# Altium schematic symbol library Integrated Circuits.SchLib: 138 symbols (part 3 of 4)
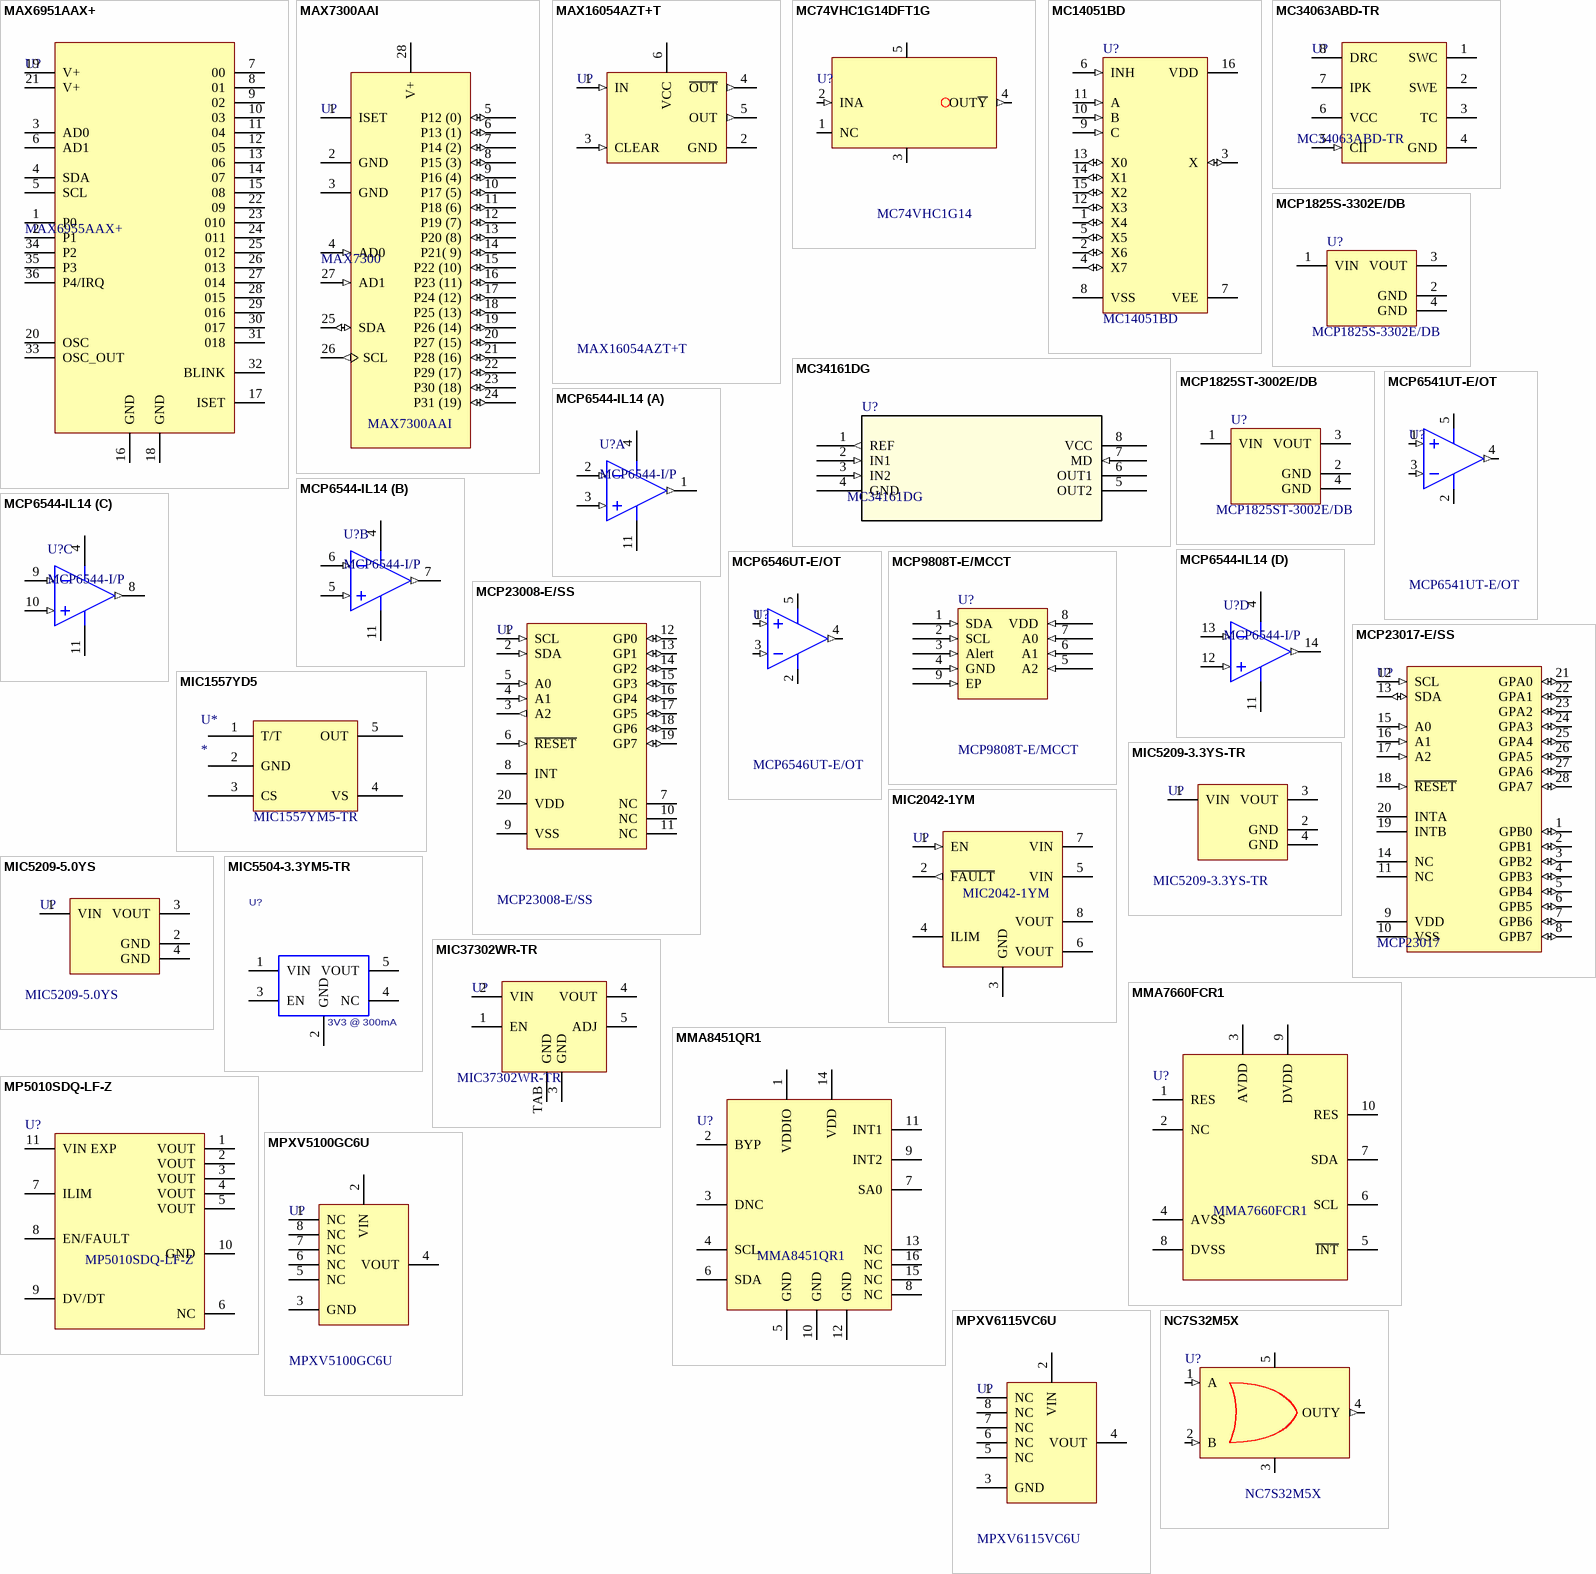
[diagram p8: symbols MAX6951AAX+ to NC7S32M5X]

## MAX7300AAI
designator U?, comment MAX7300
IC, IO Expander, I2C Interface, 20 GPIO, 28-SSOP; Part Number: MAX7300AAI; Manufacturer: Maxim Integrated; PackageDescription: 28-SSOP; ComponentLink1Description: Supplier Link; ComponentLink1URL: http://www.digikey.com/product-detail/en/MAX7300AAI%2B/MAX7300AAI%2B-ND/1512181; PackageReference: A28+1; HelpURL: C:\Dropbox\Component Datasheets\(U) Integrated Circuits\IO Expanders\MAX7300.pdf
footprint TSSOP-28_0.65P5X10_IPC7351A (SOP, 28-Leads, Body 10.2x5.29mm, Pitch 0.65mm, IPC High Density)
pins: 1 ISET "Bias current setting.", 2 GND (power) "Ground", 3 GND (power) "Ground", 4 AD0 (in) "Address line 0", 5 P12 (0) (io) "GPIO 0", 6 P13 (1) (io) "GPIO 1", 7 P14 (2) (io) "GPIO 2", 8 P15 (3) (io) "GPIO 3", 9 P16 (4) (io) "GPIO 4", 10 P17 (5) (io) "GPIO 5", 11 P18 (6) (io) "GPIO 6", 12 P19 (7) (io) "GPIO 7", 13 P20 (8) (io) "GPIO 8", 14 P21( 9) (io) "GPIO 9", 15 P22 (10) (io) "GPIO 10", 16 P23 (11) (io) "GPIO 11", 17 P24 (12) (io) "GPIO 12", 18 P25 (13) (io) "GPIO 13", 19 P26 (14) (io) "GPIO 14", 20 P27 (15) (io) "GPIO 15", 21 P28 (16) (io) "GPIO 16", 22 P29 (17) (io) "GPIO 17", 23 P30 (18) (io) "GPIO 18", 24 P31 (19) (io) "GPIO 19", 25 SDA (io) "I2C data line", 26 SCL (out) "I2C clock", 27 AD1 (in) "Address line 1", 28 V+ (power) "Supply Voltage Input"

## MAX16054AZT+T
designator U?
IC, Pushbutton Debounce Controller, ON/OFF, SOT23-6; Manufacturer: Maxim Integrated; PackageReference: *; PackageDescription: SOT23-6; ComponentLink1Description: Supplier Link; ComponentLink1URL: https://www.digikey.com/product-detail/en/maxim-integrated/MAX16054AZT-T/MAX16054AZT-TCT-ND/2234292; HelpURL: http://datasheets.maximintegrated.com/en/ds/MAX16054.pdf; Part Number: MAX16054AZT+T
footprint SOT23-6 (SOT23, 6-Leads, Body 3x1.5mm, Pitch 1mm, Lead Span 2.7mm, IPC Medium Density)
pins: 1 IN (in), 2 GND (power), 3 CLEAR (in), 4 ~{OUT} (out), 5 OUT (out), 6 VCC (power)

## MC74VHC1G14DFT1G
designator U?, comment MC74VHC1G14
IC, Inverter, SGL, Schmitt, SOT353; Manufacturer: On Semi; PackageReference: SOT-353; PackageDescription: SOT-353; ComponentLink1Description: Supplier Link; ComponentLink1URL: http://www.digikey.com/product-detail/en/MC74VHC1G14DFT1G/MC74VHC1G14DFT1GOSCT-ND/964532; HelpURL: C:\Users\jmrosino\Dropbox (Personal)\Component Datasheets\(U) Integrated Circuits\Cap Sense\OnSemi_Inverter_MC74VHC1G14-D.PDF; Part Number: MC74VHC1G14
footprint SOT_353 (SOT353, 5pin, 2mm x 1.25mm, 0.65 pitch)
pins: 1 NC, 2 INA (in), 3 GND, 4 OUT~{Y} (out), 5 VDD (power)

## MC14051BD
designator U?
IC, 8-Channel Analog Multiplexer/Demultiplexer; Manufacturer: ON Semiconductor; PackageVersion: Oct-1999; PackageReference: *; PackageDescription: *; ComponentLink1Description: Supplier Link; ComponentLink1URL: http://www.digikey.com/product-detail/en/MC14051BDTR2G/MC14051BDTR2GOSCT-ND/1967077; HelpURL: *; Part Number: MC14051BD
footprint TSSOP-16_0.65P5x4.4_948F (TSOP, 16-Leads, Body 5x4.4mm, Pitch 0.65mm, IPC High Density)
pins: 1 X4 (io), 2 X6 (io), 3 X (io), 4 X7 (io), 5 X5 (io), 6 INH (in), 7 VEE (power), 8 VSS (power), 9 C (in), 10 B (in), 11 A (in), 12 X3 (io), 13 X0 (io), 14 X1 (io), 15 X2 (io), 16 VDD (power)

## MC34063ABD-TR
designator U?
IC, Vreg, Buck-Boost, 1.5A, 40V, 8-Pin SOIC; Manufacturer: STMicroelectronics; PackageReference: 8-SO; PackageDescription: 8-SOIC; Part Number: MC34063ABD-TR; HelpURL: http://www.st.com/content/ccc/resource/technical/document/datasheet/03/f9/c4/3d/7f/eb/4c/5e/CD00001232.pdf/files/CD00001232.pdf/jcr:content/translations/en.CD00001232.pdf; ComponentLink2Description: Datahseet; ComponentLink1URL: http://www.digikey.com/product-detail/en/stmicroelectronics/MC34063ABD-TR/497-7849-1-ND/1883648; ComponentLink1Description: Supplier Link
footprint SOIC-8_1.27P4.9X3.9_IPC7351A (SOIC, 8-Leads, Body 4.90x3.90mm, Pitch 1.27mm, IPC High Density)
pins: 1 SWC (oc), 2 SWE (oe), 3 TC, 4 GND (power), 5 CII (in), 6 VCC (power), 7 IPK, 8 DRC (oc)

## MC34161DG
designator U?
Supervisor Open Drain or Open Collector 2 Channel 8-SOIC; Manufacturer: STMicroelectronics; PackageReference: 8-SO; PackageDescription: IC MONITOR VOLTAGE UNIV 8SOIC; Part Number: MC34161DG; HelpURL: http://www.onsemi.com/pub_link/Collateral/MC34161-D.PDF; ComponentLink2Description: Datahseet; ComponentLink1URL: http://www.digikey.com/product-search/en?keywords=MC34161DGOS-ND%20; ComponentLink1Description: Supplier Link
footprint SO8NB
pins: 1 REF (out), 2 IN1 (in), 3 IN2 (in), 4 GND (power), 5 OUT2, 6 OUT1, 7 MD (in), 8 VCC (power)

## MCP1825S-3302E/DB
designator U?
IC, Vreg, LDO, 500 mA, Fixed 3.3V Out, Vin 6.0Vmax, 3-Pin SOT-223; Manufacturer: Microchip; PackageReference: SOT-223-DB3; PackageDescription: 3-Lead Plastic Small Outline Transistor (DB) [SOT-223]; Part Number: MCP1825S-3302E/DB; HelpURL: http://www.mouser.com/ds/2/268/22056b-475378.pdf; ComponentLink1URL: http://www.mouser.com/ProductDetail/Microchip-Technology/MCP1825S-3302E-DB/?qs=sGAEpiMZZMsGz1a6aV8DcJ7KfjtCj7XdhLgwEYhyq%2fs%3d; ComponentLink1Description: Supplier Link
footprint SOT-223-DB3_M (SOT223, 4-Leads, Body 6.5x3.5mm, Pitch 2.3mm, Lead Span 7mm, IPC Low Density)
pins: 1 VIN (power), 2 GND (power), 3 VOUT (power), 4 GND (power)

## MCP1825ST-3002E/DB
designator U?
IC, Vreg, LDO, 500 mA, Fixed 3.0V Out, Vin 6.0Vmax, 3-Pin SOT-223; Manufacturer: Microchip; PackageReference: SOT-223-DB3; PackageDescription: SOT-223-DB3; Part Number: MCP1825ST-3002E/DB; HelpURL: http://www.mouser.com/ds/2/268/22056b-475378.pdf; ComponentLink1URL: http://www.mouser.com/ProductDetail/Microchip-Technology/MCP1825S-3302E-DB/?qs=sGAEpiMZZMsGz1a6aV8DcJ7KfjtCj7XdhLgwEYhyq%2fs%3d; ComponentLink1Description: Supplier Link
footprint SOT-223-DB3_M (SOT223, 4-Leads, Body 6.5x3.5mm, Pitch 2.3mm, Lead Span 7mm, IPC Low Density)
pins: 1 VIN (power), 2 GND (power), 3 VOUT (power), 4 GND (power)

## MCP6541UT-E/OT
designator U?
IC, Comparator, Push-Pull, Single; Manufacturer: Microchip; PackageDescription: SOT-23-5; ComponentLink1Description: Supplier Link; ComponentLink1URL: http://www.digikey.com/product-detail/en/MCP6541UT-E%2FOT/MCP6541UT-E%2FOTCT-ND/857433; PackageReference: SOT-23-5; Part Number: MCP6541UT-E/OT; HelpURL: C:\Dropbox (Personal)\Component Datasheets\(U) Integrated Circuits\Comparators\Microchip_MCP6541.pdf
footprint SOT-23-5 (SOT23-5, 5pin, 3mm x 3mm, 0.95 pitch)
pins: 1 VIN+ (in), 2 VDD (power), 3 VIN- (in), 4 OUT (out), 5 VSS (power)

## MCP6544-IL14
designator U?, comment MCP6544-I/P
IC, Comparator, PP I/O, QUAD 1.6V 14DIP; Datasheet: http://ww1.microchip.com/downloads/en/DeviceDoc/22269B.pdf; Manufacturer link: http://www.digikey.com/product-detail/en/microchip-technology/MCP6544-I-P/MCP6544-I-P-ND/458371; PackageDescription: 14-DIP; Partnumber: MCP6544-I/P
footprint PDIP14-7.62X2.54 (DIP, 14-Pin, Row Spacing 7.62 mm, Pitch 2.54 mm)
pins on every part: 4 VDD (power), 11 VSS (power)
part A pins: 1 OUTA (out), 2 VINA- (in), 3 VINA+ (in)
part B pins: 5 VINB+ (in), 6 VINB- (in), 7 OUTB (out)
part C pins: 8 OUTC (out), 9 VINC- (in), 10 VINC+ (in)
part D pins: 12 VIND+ (in), 13 VIND- (in), 14 OUTD (out)

## MCP6546UT-E/OT
designator U?
IC, Comparator, Open Drain, 1.6-5.5V, R to R, SOT23-5; Manufacturer: Microchip; PackageDescription: SC-74A, SOT-753; ComponentLink1Description: Supplier Link; ComponentLink1URL: https://www.digikey.com/product-detail/en/microchip-technology/MCP6546UT-E-OT/MCP6546UT-E-OTCT-ND/1979734; PackageReference: SOT-23-5; Part Number: MCP6546UT-E/OT; HelpURL: http://ww1.microchip.com/downloads/en/DeviceDoc/21714G.pdf
footprint SOT-23-5 (SOT23-5, 5pin, 3mm x 3mm, 0.95 pitch)
pins: 1 VIN+ (in), 2 VDD (power), 3 VIN- (in), 4 OUT (out), 5 VSS (power)

## MCP9808T-E/MCCT
designator U?
IC, Temperature Sensor, I2C, 8DFN, 0.5C Accuracy; Manufacturer: Microchip; PackageDescription: SENSOR TEMP I2C/SMBUS 8DFN; ComponentLink1Description: Supplier Link; ComponentLink1URL: https://www.digikey.com/product-detail/en/microchip-technology/MCP9808T-E-MC/MCP9808T-E-MCCT-ND/2802117; PackageReference: 8-DFN (2x3 mm); Part Number: MCP9808T-E/MCCT; HelpURL: http://ww1.microchip.com/downloads/en/DeviceDoc/25095A.pdf
footprint DFN8_EP_2x3 (SON, 8-Leads, Body 2.00x3.00mm, Pitch 0.50mm, Thermal Pad 1.43x1.54mm, IPC High Density)
pins: 1 SDA (in), 2 SCL (in), 3 Alert (in), 4 GND (in), 5 A2 (in), 6 A1 (in), 7 A0 (in), 8 VDD (in), 9 EP (in)

## MCP23008-E/SS
designator U?
IC, IO Expander, 8 bit, I2C Interface; Manufacturer: Microchip; PackageReference: SS; PackageDescription: 20-SSOP; ComponentLink1Description: Supplier Link; ComponentLink1URL: http://www.digikey.com/product-detail/en/MCP23008-E%2FSS/MCP23008-E%2FSS-ND/735953; HelpURL: C:\Dropbox\Component Datasheets\(U) Integrated Circuits\IO Expanders\Microchip_MCP23x08.pdf; Part Number: MCP23008-E/SS
footprint TSSOP-20_0.65P5X7 (SOP, 20-Leads, Body 7.2x5.2mm, Pitch 0.65mm, IPC Medium Density)
pins: 1 SCL (in), 2 SDA (in), 3 A2 (out), 4 A1 (in), 5 A0 (in), 6 ~{RESET} (in), 7 NC, 8 INT (oc), 9 VSS (power), 10 NC, 11 NC, 12 GP0 (io), 13 GP1 (io), 14 GP2 (io), 15 GP3 (io), 16 GP4 (io), 17 GP5 (io), 18 GP6 (io), 19 GP7 (io), 20 VDD (power)

## MCP23017-E/SS
designator U?, comment MCP23017
IC, IO Expander, 16 bit, I2C Interface; Manufacturer: Microchip; Part Number: MCP23017-E/SS; PackageReference: SS; PackageDescription: IC I/O EXPANDER I2C 16B 28SSOP; ComponentLink1Description: Supplier Link; ComponentLink1URL: http://www.digikey.com/product-detail/en/MCP23017-E%2FSS/MCP23017-E%2FSS-ND/894273; HelpURL: http://ww1.microchip.com/downloads/en/DeviceDoc/20001952C.pdf
footprint TSSOP-28_0.65P5X10_IPC7351A (SOP, 28-Leads, Body 10.2x5.29mm, Pitch 0.65mm, IPC High Density)
pins: 1 GPB0 (io), 2 GPB1 (io), 3 GPB2 (io), 4 GPB3 (io), 5 GPB4 (io), 6 GPB5 (io), 7 GPB6 (io), 8 GPB7 (io), 9 VDD (power), 10 VSS (power), 11 NC, 12 SCL (in), 13 SDA (io), 14 NC, 15 A0 (in), 16 A1 (in), 17 A2 (in), 18 ~{RESET} (in), 19 INTB (oc), 20 INTA (oc), 21 GPA0 (io), 22 GPA1 (io), 23 GPA2 (io), 24 GPA3 (io), 25 GPA4 (io), 26 GPA5 (io), 27 GPA6 (io), 28 GPA7 (io)

## MIC1557YD5
designator U*  PartNumber: MIC1557YM5-TR
IC, RC Timer/Oscillator, MIC1557YD5, SOT23-5; Manufacturer: Microchip Technology; ComponentLink1Description: Supplier Link; ComponentLink1URL: http://www.digikey.com/product-detail/en/microchip-technology/MIC1557YM5-TR/576-1055-1-ND/771823
footprint sot23-5
pins: 1 T/T, 2 GND, 3 CS, 4 VS, 5 OUT

## MIC2042-1YM
designator U?
IC, Power Distribution Switch, 3A max,  8-SOIC; Manufacturer: Microchip Technology; PackageDescription: IC DISTRIBUTION SW SGL 8-SOIC; PackageReference: 8-pin SOP (M); ComponentLink1URL: http://www.digikey.com/product-detail/en/microchip-technology/MIC2042-1YM/576-1695-5-ND/1027926; ComponentLink1Description: Supplier Link; HelpURL: http://ww1.microchip.com/downloads/en/DeviceDoc/mic2042.PDF; PartNumber: MIC2042-1YM
footprint SOIC-8_1.27P4.9X3.9_IPC7351A (SOIC, 8-Leads, Body 4.90x3.90mm, Pitch 1.27mm, IPC High Density)
pins: 1 EN (in), 2 ~{FAULT} (out), 3 GND, 4 ILIM (power), 5 VIN, 6 VOUT, 7 VIN (oc), 8 VOUT

## MIC5209-3.3YS-TR
designator U?
IC, Vreg, LDO, 500 mA, Fixed 3.3V Out, Vin 15Vmax, 3-Pin SOT-223; Manufacturer: Microchip; PackageReference: SOT-223-DB3; PackageDescription: IC REG LDO 3.3V 0.5A SOT223; Part Number: MIC5209-3.3YS-TR; HelpURL: http://ww1.microchip.com/downloads/en/DeviceDoc/mic5209.pdf; ComponentLink2Description: Datahseet; ComponentLink1URL: http://www.digikey.com/product-detail/en/microchip-technology/MIC5209-3.3YS-TR/576-1274-1-ND/771899; ComponentLink1Description: Supplier Link
footprint SOT-223-DB3_M (SOT223, 4-Leads, Body 6.5x3.5mm, Pitch 2.3mm, Lead Span 7mm, IPC Low Density)
pins: 1 VIN (power), 2 GND (power), 3 VOUT (power), 4 GND (power)

## MIC5209-5.0YS
designator U?
IC, Vreg, LDO, 500 mA, Fixed 5.0V Out, Vin 16Vmax, 3-Pin SOT-223; Manufacturer: Microchip; PackageReference: SOT-223-DB3; PackageDescription: IC REG LDO 5V 0.5A SOT223; Part Number: MIC5209-5.0YS; HelpURL: http://ww1.microchip.com/downloads/en/DeviceDoc/mic5209.pdf; ComponentLink2Description: Datahseet; ComponentLink1URL: http://www.digikey.com/product-detail/en/microchip-technology/MIC5209-5.0YS/576-1276-ND/771745; ComponentLink1Description: Supplier Link
footprint SOT-223-DB3_M (SOT223, 4-Leads, Body 6.5x3.5mm, Pitch 2.3mm, Lead Span 7mm, IPC Low Density)
pins: 1 VIN (power), 2 GND (power), 3 VOUT (power), 4 GND (power) "Tab"

## MIC5504-3.3YM5-TR
designator U?  value 3V3 @ 300mA  (hidden comment: MIC5504-3.3YM5-TR)
IC, Vreg, LDO, 2.5V to 5.5V, 160mV Dropout, 3.3Vout, 300mAout; Manufacturer: MICROCHIP; Current Rating: 300mA; Voltage Rating: Vo = 3.3V; PackageDescription: SOT-23-5; ComponentLink1Description: Supplier Link; ComponentLink1URL: http://www.mouser.com/ProductDetail/Microchip/MIC5504-33YM5-TR/?qs=%2fha2pyFadujJDaiWTJyHEN2WiPDFCbokSBsX6Nn5SFt6QmSHXBFB7Jl5oDxci6NL; HelpURL: http://www.mouser.com/ds/2/268/MIC550X-779180.pdf; Part Number: MIC5504-3.3YM5-TR
footprint SOT-23-5 (SOT23-5, 5pin, 3mm x 3mm, 0.95 pitch)
pins: 1 VIN, 2 GND, 3 EN, 4 NC, 5 VOUT

## MIC37302WR-TR
designator U?
IC, Vreg, LDO, 3.0A, 1.24-5.5VAdj, 5-Pin S-pak; Manufacturer: Microchip; PackageReference: S-PAK-5; PackageDescription: SPak-5 (5 leads + Tab); Part Number: MIC37302WR-TR; HelpURL: http://ww1.microchip.com/downloads/en/DeviceDoc/mic37300-301-302.pdf; ComponentLink2Description: Datahseet; ComponentLink1URL: http://www.digikey.com/product-detail/en/microchip-technology/MIC37302WR-TR/576-1167-1-ND/771860; ComponentLink1Description: Supplier Link
footprint SPAK-5_MIC37302 (SPAK, 5 lead + TAB)
pins: 1 EN (power), 2 VIN (power), 3 GND (power), 4 VOUT (power), 5 ADJ (power), TAB GND (power)

## MMA7660FCR1
designator U?
IC, Accelerometer, 3-axis, i2c interface; Manufacturer: Freescale; PackageReference: LP; PackageDescription: 10 lead DFN; ComponentLink1Description: Manufacturer Link; ComponentLink1URL: http://www.freescale.com/products/sensors/accelerometers/3-axis-accelerometers/1.5g-low-g-digital-accelerometer:MMA7660FC; ComponentLink2Description: Datasheet; ComponentLink2URL: C:\Users\jmrosino\Dropbox (Personal)\Component Datasheets (1)\(U) Integrated Circuits\Accelerometers\Freescale_MMA7660FC.pdf; HelpURL: C:\Users\jmrosino\Dropbox (Personal)\Component Datasheets (1)\(U) Integrated Circuits\Accelerometers\Freescale_MMA7660FC.pdf; Part Number: MMA7660FCR1
footprint DFN10_3x3_0.5 (DFN, 10-leads, Body 3x3mm, Pitch 0.5mm)
pins: 1 RES "Soft start and watchdog timing capacitor terminal", 2 NC "Soft start and watchdog timing capacitor terminal", 3 AVDD "Soft start and watchdog timing capacitor terminal", 4 AVSS "Soft start and watchdog timing capacitor terminal", 5 ~{INT} "Soft start and watchdog timing capacitor terminal", 6 SCL "Soft start and watchdog timing capacitor terminal", 7 SDA "Soft start and watchdog timing capacitor terminal", 8 DVSS "Soft start and watchdog timing capacitor terminal", 9 DVDD "Soft start and watchdog timing capacitor terminal", 10 RES "Soft start and watchdog timing capacitor terminal"

## MMA8451QR1
designator U?
IC, Accelerometer, 3-axis, 14bit/8bit, i2c interface; Manufacturer: NXP USA Inc.; PackageReference: LP; PackageDescription: IC ACCELER 2G/4G/8G 3AXIS 16QFN; ComponentLink1Description: Manufacturer Link; ComponentLink1URL: http://www.freescale.com/products/sensors/accelerometers/3-axis-accelerometers/1.5g-low-g-digital-accelerometer:MMA7660FC; ComponentLink2Description: Supplier Link; ComponentLink2URL: http://www.digikey.com/product-detail/en/MMA8451QR1/MMA8451QR1TR-ND/2508916; HelpURL: http://cache.freescale.com/files/sensors/doc/data_sheet/MMA8451Q.pdf; Part Number: MMA8451QR1
footprint QFN-16-3x3_FreeScale (QFN, 16-Leads, Body 3x3mm, Pitch 0.5mm, MMA8451 IC)
pins: 1 VDDIO (power), 2 BYP "Soft start and watchdog timing capacitor terminal", 3 DNC "Soft start and watchdog timing capacitor terminal", 4 SCL "Soft start and watchdog timing capacitor terminal", 5 GND (power), 6 SDA "Soft start and watchdog timing capacitor terminal", 7 SA0, 8 NC "Soft start and watchdog timing capacitor terminal", 9 INT2 "Soft start and watchdog timing capacitor terminal", 10 GND (power), 11 INT1 "Soft start and watchdog timing capacitor terminal", 12 GND (power), 13 NC "Soft start and watchdog timing capacitor terminal", 14 VDD (power), 15 NC, 16 NC

## MP5010SDQ-LF-Z
designator U?
IC, EFuse, 4-18V, Up to 5A, 10VSON; Manufacturer: Monolithic Power Systems; PackageReference: 10-QFN (3x3); PackageDescription: 10-QFN-Exposed Pad VCC; ComponentLink1Description: Supplier; ComponentLink1URL: http://www.mouser.com/ProductDetail/Monolithic-Power-Systems-MPS/MP5010SDQ-LF-Z/?qs=sGAEpiMZZMvZIhR0ic1l%2ffxrj9fhyWLEWsgjXu29Cr0%3d; HelpURL: http://www.mouser.com/ds/2/277/MP5010S_r1.0-371400.pdf; Part Number: MP5010SDQ-LF-Z
footprint QFN-10-3x3 (QFN, 10-Leads, Body 3x3mm, Pitch 0.5mm, Thermal Pad 1.7x 2.5mm)
pins: 1 VOUT (power), 2 VOUT (power), 3 VOUT (power), 4 VOUT (power), 5 VOUT (power), 6 NC, 7 ILIM, 8 EN/FAULT, 9 DV/DT, 10 GND, 11 VIN EXP (power)

## MPXV5100GC6U
designator U?
IC, Pressure Sensor, Top Port, 100kPa, 0.2v-4.6V, 8-SMD gull wing; Manufacturer: NXP USA Inc.; PackageDescription: SENSOR GAUGE PRESS 14.5PSI MAX; ComponentLink1Description: Supplier Link; ComponentLink1URL: http://www.digikey.com/product-detail/en/nxp-usa-inc/MPXV5100GC6U/MPXV5100GC6U-ND/951850; PackageReference: 8-SMD; Part Number: MPXV5100GC6U; HelpURL: http://www.nxp.com/assets/documents/data/en/data-sheets/MPX5100.pdf
footprint MPX-8_SMD_Sensor (Pressure Sensor)
pins: 1 NC, 2 VIN (power), 3 GND, 4 VOUT (power), 5 NC, 6 NC, 7 NC, 8 NC (power)

## MPXV6115VC6U
designator U?
IC, Pressure Sensor, Top Port, -115kPa (vacuum), 0.2v-4.6V, 8-SMD gull wing; Manufacturer: NXP USA Inc.; PackageDescription: SENSOR DIFF PRESS 2.2PSI MAX; ComponentLink1Description: Supplier Link; ComponentLink1URL: http://www.digikey.com/product-detail/en/nxp-usa-inc/MPXV6115VC6U/MPXV6115VC6U-ND/951851; PackageReference: 8-SMD; Part Number: MPXV6115VC6U; HelpURL: http://www.nxp.com/assets/documents/data/en/data-sheets/MPXV6115V.pdf
footprint MPX-8_SMD_Sensor (Pressure Sensor)
pins: 1 NC, 2 VIN (power), 3 GND, 4 VOUT (power), 5 NC, 6 NC, 7 NC, 8 NC (power)

## NC7S32M5X
designator U?
IC, OR Gate, CMOS, SGL, SOT23-5; Manufacturer: On Semi; PackageReference: SOT-23-5; PackageDescription: SOT-23-5; ComponentLink1Description: Supplier Link; ComponentLink1URL: http://www.digikey.com/product-detail/en/fairchild-semiconductor/NC7S32M5X/NC7S32M5XCT-ND/673383; HelpURL: https://www.fairchildsemi.com/datasheets/NC/NC7S32.pdf; Part Number: NC7S32M5X
footprint SOT-23-5 (SOT23-5, 5pin, 3mm x 3mm, 0.95 pitch)
pins: 1 A (in), 2 B (in), 3 GND, 4 OUTY (out), 5 VDD (power)

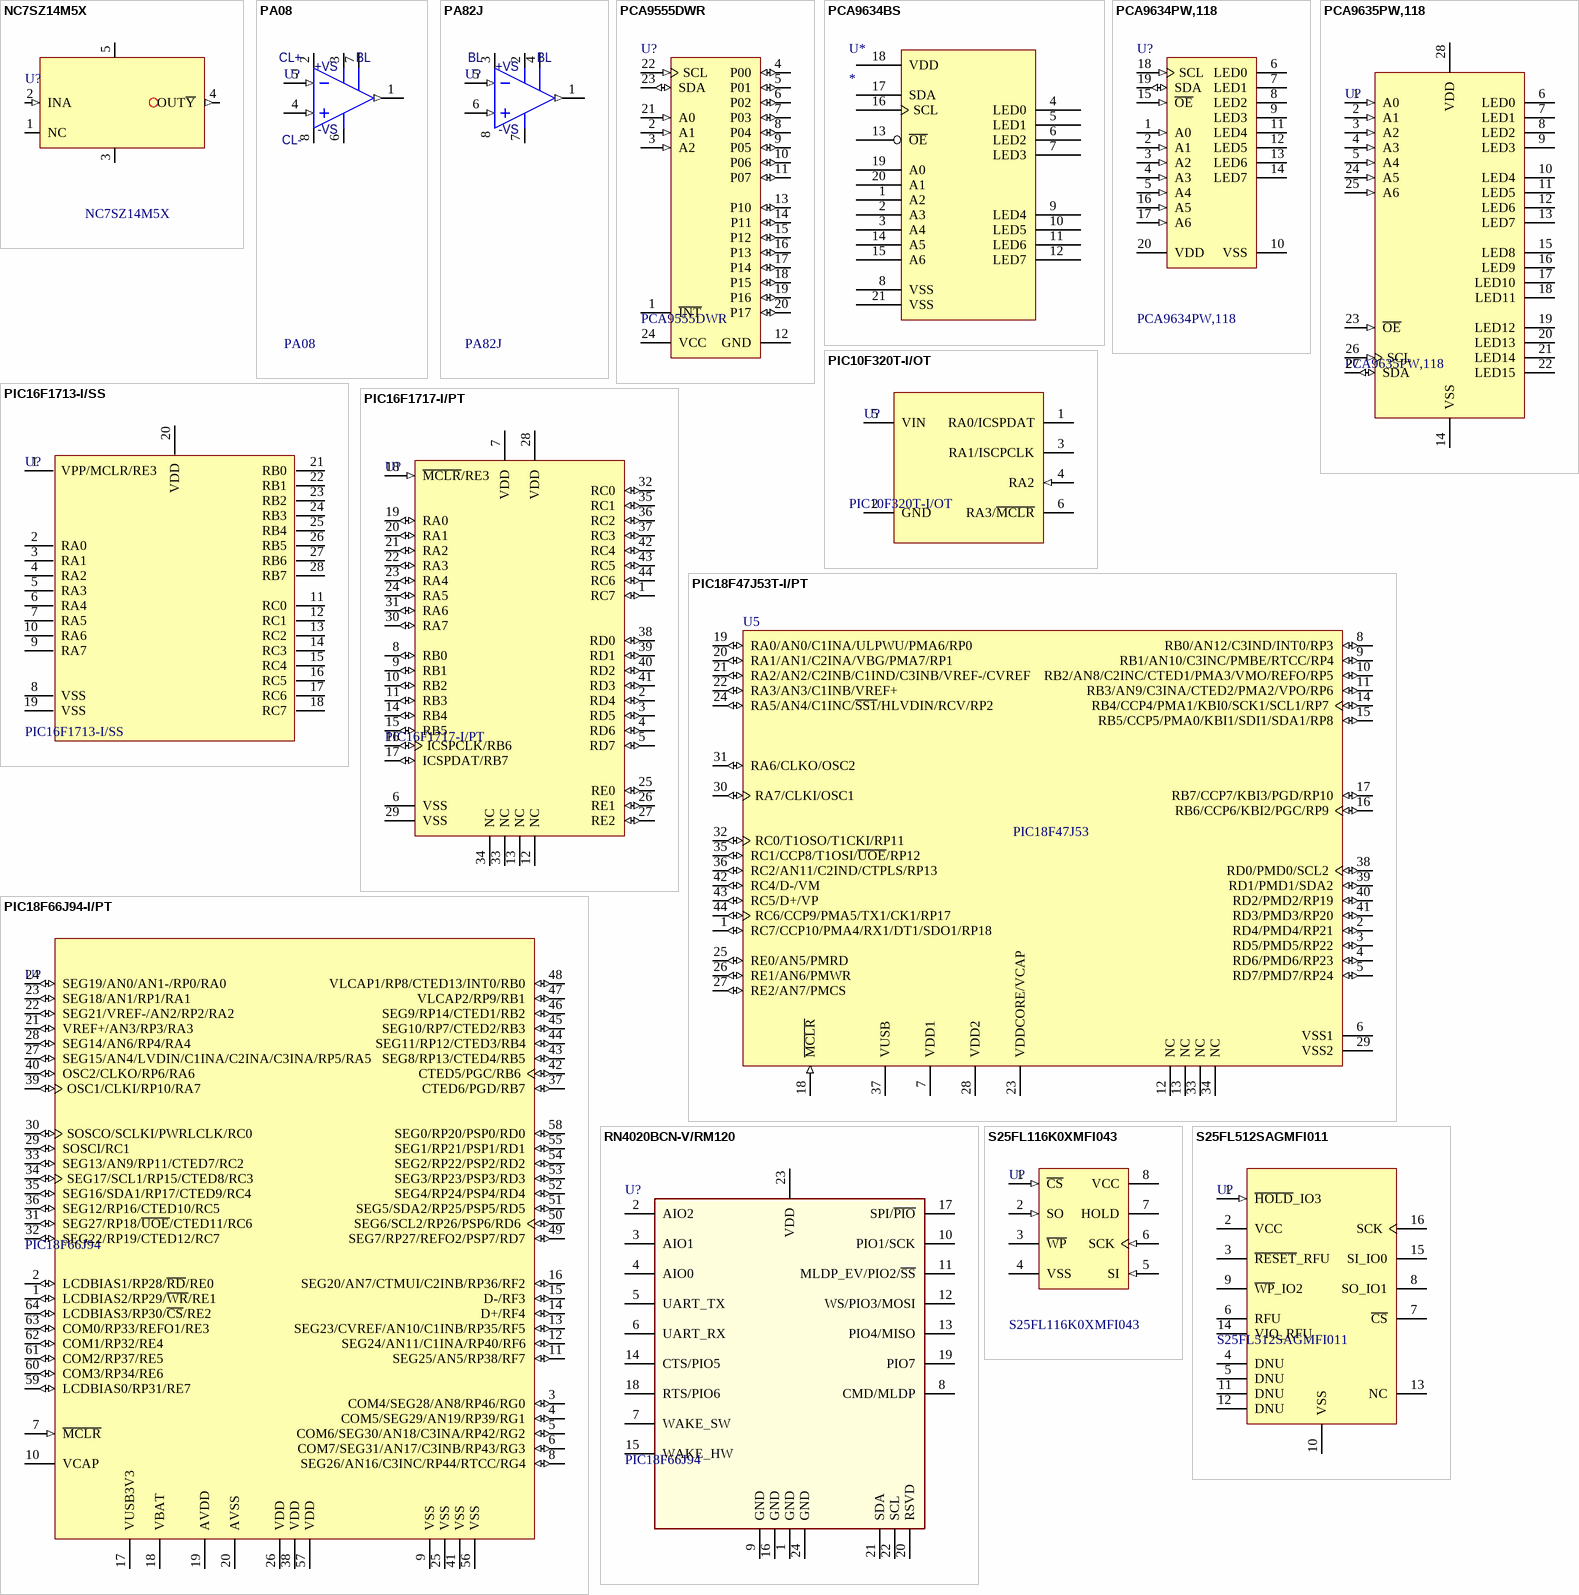
[diagram p5: symbols NC7SZ14M5X to S25FL512SAGMFI011]

## NC7SZ14M5X
designator U?
IC, Inverter, Single, Schmitt, SOT23-5; Manufacturer: Fairchild Semi; PackageReference: SOT23-5; PackageDescription: SOT23-5; ComponentLink1Description: Supplier Link; ComponentLink1URL: http://www.digikey.com/product-detail/en/NC7SZ14M5X/NC7SZ14M5XCT-ND/673396; HelpURL: C:\Users\jmrosino\Dropbox (Personal)\Component Datasheets\(U) Integrated Circuits\Cap Sense\Fairchild_Inverter_NC7SZ14.pdf; Part Number: NC7SZ14M5X
footprint SOT-23-5 (SOT23-5, 5pin, 3mm x 3mm, 0.95 pitch)
pins: 1 NC, 2 INA (in), 3 GND, 4 OUT~{Y} (out), 5 VDD (power)

## PA08
designator U?
IC, Op-Amp, Single, HV 300V, High Power; Manufacturer: Apex Microtechnology; PackageReference: TO3-8; PackageDescription: TO3-8; ComponentLink1Description: Supplier Link; ComponentLink1URL: http://www.digikey.com/product-detail/en/apex-microtechnology/PA08/598-1296-ND/1761920; HelpURL: https://www.apexanalog.com/products/pa08.html; Part Number: PA08
footprint TO3-8_Can (TO3 8 pin can)
pins: 1 OUT (out), 2 CL- (power), 3 +V (power), 4 +IN (in), 5 -IN (in), 6 -V (power), 7 BL (power), 8 CL+
text: +VS; -VS

## PA82J
designator U?
IC, Op-Amp, Single, HV 300V, High Power; Manufacturer: Apex Microtechnology; PackageReference: TO3-8; PackageDescription: TO3-8; ComponentLink1Description: Supplier Link; ComponentLink1URL: http://www.digikey.com/product-search/en?keywords=PA82J; HelpURL: https://www.apexanalog.com/resources/products/pa81-82ju.pdf; Part Number: PA82J
footprint TO3-8_Can (TO3 8 pin can)
pins: 1 OUT (out), 2 +V (power), 3 BL (power), 4 BL (power), 5 -IN (in), 6 +IN (in), 7 -V (power), 8 NC
text: +VS; -VS

## PCA9555DWR
designator U?
IC I/O EXPANDER I2C 16B 24SOIC; Manufacturer: Texas Instrument; PackageReference: 24SOIC; PackageDescription: IC I/O EXPANDER I2C 16B 24SOIC; ComponentLink1Description: Supplier Link; ComponentLink1URL: http://www.digikey.com/products/en/integrated-circuits-ics/interface-i-o-expanders/749?k=PCA9555&k=&pkeyword=PCA9555&pv1291=469&FV=142c0887%2C142c0018%2C142c0bb6%2C142c01d5%2C142c0240%2Cffe002ed%2C1c0002&mnonly=0&newproducts=0&ColumnSort=0&page=1&quantity=0&ptm=0&fid=0&pageSize=25; HelpURL: http://www.ti.com/lit/ds/symlink/pca9555.pdf; Part Number: PCA9555DWR
footprint SOIC-24 (SOIC, 24-Leads, Body 15.6x7.6mm, Pitch 1.27mm, IPC High Density)
pins: 1 ~{INT} (oc) "Interrupt output. Connect to VCC through a pullup resistor.", 2 A1 (in) "Address input 1. Connect directly to VCC or ground.", 3 A2 (in) "Address input 2. Connect directly to VCC or ground.", 4 P00 (io) "P-port input/output. Push-pull design structure.", 5 P01 (io) "P-port input/output. Push-pull design structure.", 6 P02 (io) "P-port input/output. Push-pull design structure.", 7 P03 (io) "P-port input/output. Push-pull design structure.", 8 P04 (io) "P-port input/output. Push-pull design structure.", 9 P05 (io) "P-port input/output. Push-pull design structure.", 10 P06 (io) "P-port input/output. Push-pull design structure.", 11 P07 (io) "P-port input/output. Push-pull design structure.", 12 GND (power) "Ground", 13 P10 (io) "P-port input/output. Push-pull design structure.", 14 P11 (io) "P-port input/output. Push-pull design structure.", 15 P12 (io) "P-port input/output. Push-pull design structure.", 16 P13 (io) "P-port input/output. Push-pull design structure.", 17 P14 (io) "P-port input/output. Push-pull design structure.", 18 P15 (io) "P-port input/output. Push-pull design structure.", 19 P16 (io) "P-port input/output. Push-pull design structure.", 20 P17 (io) "P-port input/output. Push-pull design structure.", 21 A0 (in) "Address input 0. Connect directly to VCC or ground.", 22 SCL (in) "Serial clock bus. Connect to VCC through a pullup resistor.", 23 SDA (io) "Serial data bus. Connect to VCC through a pullup resistor.", 24 VCC (power) "Supply voltage"

## PCA9634BS
designator U*
IC, I2C BUS LED DRIVER 8 CHANNEL
pins: 1 A2, 2 A3, 3 A4, 4 LED0, 5 LED1, 6 LED2, 7 LED3, 8 VSS, 9 LED4, 10 LED5, 11 LED6, 12 LED7, 13 ~{OE}, 14 A5, 15 A6, 16 SCL, 17 SDA, 18 VDD, 19 A0, 20 A1, 21 VSS

## PCA9634PW,118
designator U?
IC, LED Driver, 8-CH, 25mA, PWM Control, 20-TSSOP; Manufacturer: NXP; PackageReference: *; PackageDescription: 20-TSSOP; ComponentLink1Description: Supplier Link; ComponentLink1URL: https://www.digikey.com/product-detail/en/nxp-usa-inc/PCA9634PW,118/568-4066-1-ND/1534155; HelpURL: http://www.nxp.com/documents/data_sheet/PCA9634.pdf; Part Number: PCA9634PW,118
footprint TSSOP-20_6.5x4.4m (TSSOP, 20-Leads, Body 6.5x4.4mm, Pitch 0.65mm, NXP Recommended)
pins: 1 A0 (in) "address input 0", 2 A1 (in) "address input 1", 3 A2 (in) "address input 2", 4 A3 (in) "address input 3", 5 A4 (in) "address input 4", 6 LED0 (hiz) "LED driver 0", 7 LED1 (hiz) "LED driver 1", 8 LED2 (hiz) "LED driver 2", 9 LED3 (hiz) "LED driver 3", 10 VSS (power) "supply ground", 11 LED4 (hiz) "LED driver 4", 12 LED5 (hiz) "LED driver 5", 13 LED6 (hiz) "LED driver 6", 14 LED7 (hiz) "LED driver 7", 15 ~{OE} (in) "active LOW output enable", 16 A5 (in) "address input 5", 17 A6 (in) "address input 6", 18 SCL (in) "serial clock line", 19 SDA (io) "serial data line", 20 VDD (power) "supply voltage"

## PCA9635PW,118
designator U?
IC, LED Driver, 16-CH, 25mA, PWM Control, 28-TSSOP; Manufacturer: NXP USA Inc.; PackageReference: *; PackageDescription: 28-TSSOP; ComponentLink1Description: Supplier Link; ComponentLink1URL: https://www.digikey.com/product-detail/en/nxp-usa-inc/PCA9635PW,118/568-4067-1-ND/1534156; HelpURL: http://www.nxp.com/documents/data_sheet/PCA9635.pdf; Part Number: PCA9635PW,118
footprint SOP-28_9.7x4.4 (SOP, 28-Leads, Body 9.7x4.4mm, Pitch 0.65mm, NXP Recommended)
pins: 1 A0 (in) "address input 0", 2 A1 (in) "address input 1", 3 A2 (in) "address input 2", 4 A3 (in) "address input 3", 5 A4 (in) "address input 4", 6 LED0 (hiz) "LED driver 0", 7 LED1 (hiz) "LED driver 1", 8 LED2 (hiz) "LED driver 2", 9 LED3 (hiz) "LED driver 3", 10 LED4 (hiz) "LED driver 4", 11 LED5 (hiz) "LED driver 5", 12 LED6 (hiz) "LED driver 6", 13 LED7 (hiz) "LED driver 7", 14 VSS (power) "supply ground", 15 LED8 (hiz) "LED driver 8", 16 LED9 (hiz) "LED driver 9", 17 LED10 (hiz) "LED driver 10", 18 LED11 (hiz) "LED driver 11", 19 LED12 (hiz) "LED driver 12", 20 LED13 (hiz) "LED driver 13", 21 LED14 (hiz) "LED driver 14", 22 LED15 (hiz) "LED driver 15", 23 ~{OE} (in) "active LOW output enable", 24 A5 (in) "address input 5", 25 A6 (in) "address input 6", 26 SCL (in) "serial clock line", 27 SDA (io) "serial data line", 28 VDD (power) "supply voltage"

## PIC10F320T-I/OT
designator U?
IC, MCU, PIC Micro 10F, 8-Bit, 448B Flash, 6 Pin; Manufacturer: Microchip; PackageReference: TSOT-23-6; PackageDescription: TSOT23-6; Part Number: PIC10F320T-I/OT; HelpURL: http://ww1.microchip.com/downloads/en/DeviceDoc/40001585D.pdf; ComponentLink2Description: Datahseet; ComponentLink1URL: http://www.digikey.com/product-detail/en/microchip-technology/PIC10F320T-I-OT/PIC10F320T-I-OTCT-ND/2772076; ComponentLink1Description: Supplier Link
footprint SOT_23-6_MO-193-AA (SOT23, 6pin, 3mm x 3mm, 0.95 pitch)
pins: 1 RA0/ICSPDAT, 2 GND (power), 3 RA1/ISCPCLK, 4 RA2 (in), 5 VIN (power), 6 RA3/~{MCLR} (power)

## PIC16F1713-I/SS
designator U?
IC, MCU, 32MHz,  25 I/O, 7KB, 28-pin SSOP; Manufacturer: Microchip; PackageDescription: 28-SSOP; ComponentLink1Description: Supplier Link; ComponentLink1URL: http://www.digikey.com/product-detail/en/microchip-technology/PIC16F1713-I-SS/PIC16F1713-I-SS-ND/4439864; HelpURL: http://ww1.microchip.com/downloads/en/DeviceDoc/40001726C.pdf; Part Number: PIC16F1713-I/SS
footprint TSSOP-28_0.65P5X10_IPC7351A (SOP, 28-Leads, Body 10.2x5.29mm, Pitch 0.65mm, IPC High Density)
pins: 1 VPP/MCLR/RE3, 2 RA0, 3 RA1, 4 RA2, 5 RA3, 6 RA4, 7 RA5, 8 VSS, 9 RA7, 10 RA6, 11 RC0, 12 RC1, 13 RC2, 14 RC3, 15 RC4, 16 RC5, 17 RC6, 18 RC7, 19 VSS, 20 VDD, 21 RB0, 22 RB1, 23 RB2, 24 RB3, 25 RB4, 26 RB5, 27 RB6, 28 RB7

## PIC16F1717-I/PT
designator U?
IC, MCU, 32MHz, 36 I/O, 8KB, 44-pin TQFP; Manufacturer: Microchip; PackageReference: PT; PackageDescription: IC MCU 8BIT 14KB FLASH 44TQFP; ComponentLink1Description: Supplier Link; ComponentLink1URL: http://www.digikey.com/product-detail/en/microchip-technology/PIC16F1717-I-PT/PIC16F1717-I-PT-ND/4842781; HelpURL: http://ww1.microchip.com/downloads/en/DeviceDoc/40001740B.pdf; Part Number: PIC16F1717-I/PT
footprint TQFP-PT44_Microchip-N (TQFP 44-Leads, Body 10x10mm, Pitch 0.8mm, IPC Medium Density)
pins: 1 RC7 (io), 2 RD4 (io), 3 RD5 (io), 4 RD6 (io), 5 RD7 (io), 6 VSS (power) "Ground reference.", 7 VDD (power) "Positive supply", 8 RB0 (io), 9 RB1 (io), 10 RB2 (io), 11 RB3 (io), 12 NC, 13 NC, 14 RB4 (io), 15 RB5 (io), 16 ICSPCLK/RB6 (io), 17 ICSPDAT/RB7 (io), 18 ~{MCLR}/RE3 (in), 19 RA0 (io), 20 RA1 (io), 21 RA2 (io), 22 RA3 (io), 23 RA4 (io), 24 RA5 (io), 25 RE0 (io), 26 RE1 (io), 27 RE2 (io), 28 VDD (power) "Positive supply", 29 VSS (power) "Ground reference.", 30 RA7 (io), 31 RA6 (io), 32 RC0 (io), 33 NC, 34 NC, 35 RC1 (io), 36 RC2 (io), 37 RC3 (io), 38 RD0 (io), 39 RD1 (io), 40 RD2 (io), 41 RD3 (io), 42 RC4 (io), 43 RC5 (io), 44 RC6 (io)

## PIC18F47J53T-I/PT
designator U5, comment PIC18F47J53
IC, MCU, 48 MHz, 33 I/O, 44-pin TQFP (PT44); Manufacturer: Microchip; Part Number: PIC18F47J53T-I/PT; # of A/D Channels: 13; Digital Communication: 2 -A/E/USART, 2 -MSSP(SPI/I2C); I/O Pins: 33; Internal Oscillator: 8 MHz, 31 kHz; Max. CPU Speed MHz: 48; Memory Type: Flash; Operation Voltage Range: 2.15V - 3.6V; Packing: T/R; Program Memory KBytes: 128; Program Memory KWords: 64; RAM: 3800; Timers: 4 - 8-bit, 4 - 16-bit; DatasheetVersion: Rev. B; PackageVersion: C04-076B, 12/2012; PackageReference: TQFP-PT44; PackageDescription: 44-Lead Plastic Thin Quad Flatpack, 10 x 10 mm Body, 0.8 mm Pitch; Supplier 1: Digi-Key; Supplier Part Number 1: PIC18F47J53T-I/PT-ND; Supplier 2: Mouser; Supplier Part Number 2: 579-PIC18F47J53TIPT; RoHS: TRUE; Mounting Technology: Surface Mount; ComponentLink1Description: Datasheet; ComponentLink1URL: http://ww1.microchip.com/downloads/en/DeviceDoc/39964B.pdf; ComponentLink2Description: Package Specification; ComponentLink2URL: http://www.microchip.com/stellent/groups/techpub_sg/documents/packagingspec/en012702.pdf; ComponentLink3Description: URL Link1; ComponentLink3URL: Product URL:http://www.microchip.com/datasheet/PIC18F47J53; HelpURL: C:\Dropbox\Component Datasheets\(U) Integrated Circuits\Microcontrollers\Microchip_PIC18F47J53.pdf
footprint TQFP-PT44_Microchip-N (TQFP 44-Leads, Body 10x10mm, Pitch 0.8mm, IPC Medium Density)
footprint TQFP-PT44_MICROCHIP-M (QFN, 44-Leads, Body 10x10mm, Pitch 0.8mm, IPC Low Density)
footprint TQFP-PT44_MICROCHIP-L (TQFP, 44-Leads, Body 10x10mm, Pitch 0.8mm, IPC High Density)
pins: 1 RC7/CCP10/PMA4/RX1/DT1/SDO1/RP18 (io), 2 RD4/PMD4/RP21 (io), 3 RD5/PMD5/RP22 (io), 4 RD6/PMD6/RP23 (io), 5 RD7/PMD7/RP24 (io), 6 VSS1 (power) "Ground reference for logic and I/O pins.", 7 VDD1 (power) "Positive supply for peripheral digital logic and I/O pins.", 8 RB0/AN12/C3IND/INT0/RP3 (io), 9 RB1/AN10/C3INC/PMBE/RTCC/RP4 (io), 10 RB2/AN8/C2INC/CTED1/PMA3/VMO/REFO/RP5 (io), 11 RB3/AN9/C3INA/CTED2/PMA2/VPO/RP6 (io), 12 NC, 13 NC, 14 RB4/CCP4/PMA1/KBI0/SCK1/SCL1/RP7 (io), 15 RB5/CCP5/PMA0/KBI1/SDI1/SDA1/RP8 (io), 16 RB6/CCP6/KBI2/PGC/RP9 (io), 17 RB7/CCP7/KBI3/PGD/RP10 (io), 18 ~{MCLR} (in) "Master Clear (Reset) input; this is an active-low Reset to the device.", 19 RA0/AN0/C1INA/ULPWU/PMA6/RP0 (io), 20 RA1/AN1/C2INA/VBG/PMA7/RP1 (io), 21 RA2/AN2/C2INB/C1IND/C3INB/VREF-/CVREF (io), 22 RA3/AN3/C1INB/VREF+ (io), 23 VDDCORE/VCAP (power), 24 RA5/AN4/C1INC/~{SS1}/HLVDIN/RCV/RP2 (io), 25 RE0/AN5/PMRD (io), 26 RE1/AN6/PMWR (io), 27 RE2/AN7/PMCS (io), 28 VDD2 (power) "Positive supply for peripheral digital logic and I/O pins.", 29 VSS2 (power) "Ground reference for logic and I/O pins.", 30 RA7/CLKI/OSC1 (io), 31 RA6/CLKO/OSC2 (io), 32 RC0/T1OSO/T1CKI/RP11 (io), 33 NC, 34 NC, 35 RC1/CCP8/T1OSI/~{UOE}/RP12 (io), 36 RC2/AN11/C2IND/CTPLS/RP13 (io), 37 VUSB (power) "USB voltage input pin.", 38 RD0/PMD0/SCL2 (io), 39 RD1/PMD1/SDA2 (io), 40 RD2/PMD2/RP19 (io), 41 RD3/PMD3/RP20 (io), 42 RC4/D-/VM (io), 43 RC5/D+/VP (io), 44 RC6/CCP9/PMA5/TX1/CK1/RP17 (io)

## PIC18F66J94-I/PT
designator U?, comment PIC18F66J94
IC, MCU, 64 MHz, 52 I/O, 64KB, 64-pin TQFP; Manufacturer: Microchip; Part Number: PIC18F66J94-I/PT; PackageReference: PT; PackageDescription: 64-TQFP; ComponentLink1Description: Supplier Link; ComponentLink1URL: http://www.digikey.com/product-detail/en/PIC18F66J94-I%2FPT/PIC18F66J94-I%2FPT-ND/3872477; HelpURL: C:\Dropbox\Component Datasheets\(U) Integrated Circuits\Microcontrollers\Microchip_PIC18FxxJ94_Family.pdf
footprint TQFP-PT64_Microchip (TQFP, 64-Leads, Body 10x10mm, Pitch 0.5mm, IPC High Density)
pins: 1 LCDBIAS2/RP29/~{WR}/RE1 (io), 2 LCDBIAS1/RP28/~{RD}/RE0 (io), 3 COM4/SEG28/AN8/RP46/RG0 (io), 4 COM5/SEG29/AN19/RP39/RG1 (io), 5 COM6/SEG30/AN18/C3INA/RP42/RG2 (io), 6 COM7/SEG31/AN17/C3INB/RP43/RG3 (io), 7 ~{MCLR} (in) "Master Clear (input) or programming voltage (input).This pin is an active-low Reset to the device.", 8 SEG26/AN16/C3INC/RP44/RTCC/RG4 (io), 9 VSS (power) "Ground reference for logic and I/O pins.", 10 VCAP "External filter capacitor connection (regulator enabled/disabled).", 11 SEG25/AN5/RP38/RF7 (io), 12 SEG24/AN11/C1INA/RP40/RF6 (io), 13 SEG23/CVREF/AN10/C1INB/RP35/RF5 (io), 14 D+/RF4 (io), 15 D-/RF3 (io), 16 SEG20/AN7/CTMUI/C2INB/RP36/RF2 (io), 17 VUSB3V3 (power) "USB voltage input pin.", 18 VBAT (power), 19 AVDD (power) "Positive supply for analog modules", 20 AVSS (power) "Ground reference for analog modules", 21 VREF+/AN3/RP3/RA3 (io), 22 SEG21/VREF-/AN2/RP2/RA2 (io), 23 SEG18/AN1/RP1/RA1 (io), 24 SEG19/AN0/AN1-/RP0/RA0 (io), 25 VSS (power) "Ground reference for logic and I/O pins.", 26 VDD (power) "Positive supply for logic and I/O pins.", 27 SEG15/AN4/LVDIN/C1INA/C2INA/C3INA/RP5/RA5 (io), 28 SEG14/AN6/RP4/RA4 (io), 29 SOSCI/RC1 (io), 30 SOSCO/SCLKI/PWRLCLK/RC0 (io), 31 SEG27/RP18/~{UOE}/CTED11/RC6 (io), 32 SEG22/RP19/CTED12/RC7 (io), 33 SEG13/AN9/RP11/CTED7/RC2 (io), 34 SEG17/SCL1/RP15/CTED8/RC3 (io), 35 SEG16/SDA1/RP17/CTED9/RC4 (io), 36 SEG12/RP16/CTED10/RC5 (io), 37 CTED6/PGD/RB7 (io), 38 VDD (power) "Positive supply for logic and I/O pins.", 39 OSC1/CLKI/RP10/RA7 (io), 40 OSC2/CLKO/RP6/RA6 (io), 41 VSS (power) "Ground reference for logic and I/O pins.", 42 CTED5/PGC/RB6 (io), 43 SEG8/RP13/CTED4/RB5 (io), 44 SEG11/RP12/CTED3/RB4 (io), 45 SEG10/RP7/CTED2/RB3 (io), 46 SEG9/RP14/CTED1/RB2 (io), 47 VLCAP2/RP9/RB1 (io), 48 VLCAP1/RP8/CTED13/INT0/RB0 (io), 49 SEG7/RP27/REFO2/PSP7/RD7 (io), 50 SEG6/SCL2/RP26/PSP6/RD6 (io), 51 SEG5/SDA2/RP25/PSP5/RD5 (io), 52 SEG4/RP24/PSP4/RD4 (io), 53 SEG3/RP23/PSP3/RD3 (io), 54 SEG2/RP22/PSP2/RD2 (io), 55 SEG1/RP21/PSP1/RD1 (io), 56 VSS (power) "Ground reference for logic and I/O pins.", 57 VDD (power) "Positive supply for logic and I/O pins.", 58 SEG0/RP20/PSP0/RD0 (io), 59 LCDBIAS0/RP31/RE7 (io), 60 COM3/RP34/RE6 (io), 61 COM2/RP37/RE5 (io), 62 COM1/RP32/RE4 (io), 63 COM0/RP33/REFO1/RE3 (io), 64 LCDBIAS3/RP30/~{CS}/RE2 (io)

## RN4020BCN-V/RM120
designator U?, comment PIC18F66J94
IC, MCU, 64 MHz, 52 I/O, 64KB, 64-pin TQFP; Manufacturer: Microchip; Part Number: RN4020BCN-V/RM120; PackageReference: PT; PackageDescription: 22-SMD Module; ComponentLink1Description: Supplier Link; ComponentLink1URL: https://www.digikey.com/product-detail/en/microchip-technology/RN4020-V-RM/RN4020-V-RM-ND/4899943; HelpURL: http://ww1.microchip.com/downloads/en/DeviceDoc/50002279B.pdf
footprint SMT-24_RN4020 MODULE (11.5 x 19.5 x 2.5 mm)
pins: 1 GND, 2 AIO2, 3 AIO1, 4 AIO0, 5 UART_TX, 6 UART_RX, 7 WAKE_SW, 8 CMD/MLDP, 9 GND, 10 PIO1/SCK, 11 MLDP_EV/PIO2/~{SS}, 12 WS/PIO3/MOSI, 13 PIO4/MISO, 14 CTS/PIO5, 15 WAKE_HW, 16 GND, 17 SPI/~{PIO}, 18 RTS/PIO6, 19 PIO7, 20 RSVD, 21 SDA, 22 SCL, 23 VDD, 24 GND

## S25FL116K0XMFI043
designator U?
IC, MEM Flash, 16Mbit, CMOS, SPI, 8-SOIC; Manufacturer: Cypress Semiconductor; PackageDescription: IC FLASH 16MBIT 108MHZ 8SOIC; ComponentLink1Description: Supplier Link; ComponentLink1URL: http://www.digikey.com/product-detail/en/cypress-semiconductor-corp/S25FL116K0XMFI043/1274-1124-1-ND/4517143; PackageReference: 8S1; Part Number: S25FL116K0XMFI043; HelpURL: http://www.cypress.com/file/196886/download
footprint SOIC-8_1.27P4.9X3.9_IPC7351A (SOIC, 8-Leads, Body 4.90x3.90mm, Pitch 1.27mm, IPC High Density)
footprint SOIC-8_1.27P4.9X3.9_short (SOIC, 8-Leads, Body 4.90x3.90mm, Pitch 1.27mm)
pins: 1 ~{CS} (in), 2 SO (in), 3 ~{WP}, 4 VSS (power), 5 SI (in), 6 SCK (in), 7 HOLD, 8 VCC (power)

## S25FL512SAGMFI011
designator U?
IC, MEM Flash, 512Mbit, 133MHz, SPI, 16-SOIC; Manufacturer: Cypress Semiconductor; PackageDescription: 16-SOIC; ComponentLink1Description: Supplier Link; ComponentLink1URL: http://www.digikey.com/products/en?keywords=S25FL512SAGMFI011; PackageReference: SO3016; Part Number: S25FL512SAGMFI011; HelpURL: http://www.cypress.com/file/177971/download
footprint SOIC-16_1.27P7.5x12.75 (SOIC, 16-Leads, Body 7.5x12.75mm, Pitch 1.27mm)
pins: 1 ~{HOLD}_IO3 (in), 2 VCC (power), 3 ~{RESET}_RFU, 4 DNU (power), 5 DNU, 6 RFU, 7 ~{CS}, 8 SO_IO1 (power), 9 ~{WP}_IO2, 10 VSS, 11 DNU, 12 DNU, 13 NC, 14 VIO_RFU, 15 SI_IO0, 16 SCK

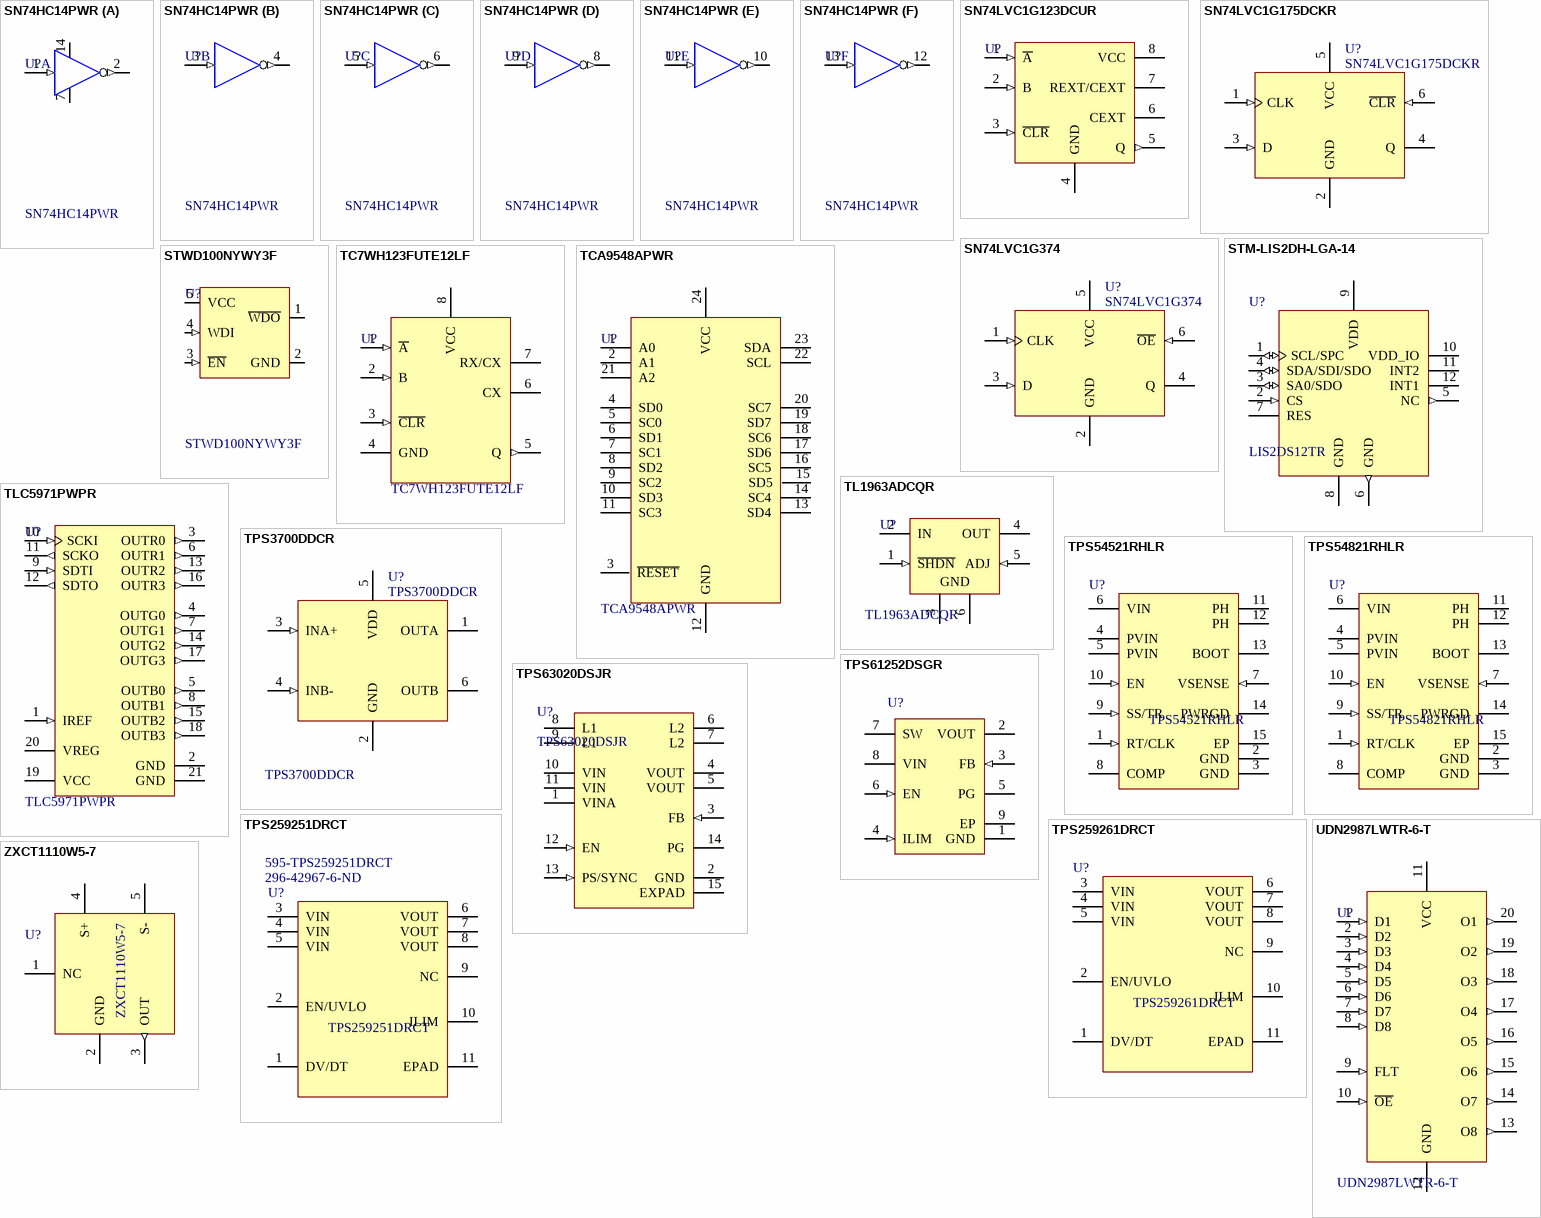
[diagram p6: symbols SN74HC14PWR to ZXCT1110W5-7]

## SN74HC14PWR
designator U?
IC, Hex Inverter, Schmitt Trigger, 14-TSSOP; Manufacturer: Texas Instruments; PackageDescription: IC HEX SCHMITT-TRIG INV 14-TSSOP; ComponentLink1Description: Supplier Link; ComponentLink1URL: http://www.digikey.com/product-detail/en/texas-instruments/SN74HC14PWR/296-8234-1-ND/376675; PackageReference: 14-TSSOP; Part Number: SN74HC14PWR; HelpURL: http://www.ti.com/lit/ds/symlink/sn74hc14.pdf
footprint TSSOP-14_0.65P5x4.4 (SOP, 14-Leads, Body 5x4.4mm, Pitch 0.65mm, IPC Medium Density)
part A pins: 1 1A (in) "Input 1A", 2 ~{1Y} (out) "Output 1Y", 7 GND (power) "Ground Pin", 14 VCC (power) "Power Pin"
part B pins: 3 2A (in) "Input 2A", 4 ~{2Y} (out) "Output 2Y"
part C pins: 5 3A (in) "Input 3A", 6 ~{3Y} (out) "Output 3Y"
part D pins: 8 ~{4Y} (out) "Output 4Y", 9 4A (in) "Input 4A"
part E pins: 10 ~{5Y} (out) "Output 5Y", 11 5A (in) "Input 5A"
part F pins: 12 ~{6Y} (out) "Output 6Y", 13 6A (in) "Input 6A"

## SN74LVC1G123DCUR
designator U?
IC, Multivibrator, Mono, 8-VSSOP; Manufacturer: Texas Instruments; Part Number: SN74LVC1G123DCUR; PackageDescription: 8-VSSOP; PackageReference: 8-VSSOP; ComponentLink1URL: https://www.digikey.com/product-detail/en/texas-instruments/SN74LVC1G123DCUR/296-18578-1-ND/809993; ComponentLink1Description: Supplier Link; HelpURL: http://www.ti.com/lit/ds/symlink/sn74lvc1g123.pdf
footprint VSSOP-8 (SOP, 8-Leads, Body 2.4x2.1mm, Pitch 0.5mm, IPC Medium Density)
pins: 1 ~{A} (in), 2 B (in), 3 ~{CLR} (in), 4 GND (power), 5 Q (out), 6 CEXT, 7 REXT/CEXT, 8 VCC (power)

## SN74LVC1G175DCKR
designator U?
IC, Single D-Type Flip-Flop, tri-state output and Clear; Manufacturer: Texas Instruments; ComponentLink1Description: Supplier Link; ComponentLink1URL: http://www.digikey.com/product-detail/en/SN74LVC1G175DCKR/296-16998-1-ND/656525; HelpURL: http://www.ti.com/lit/ds/symlink/sn74lvc1g175.pdf; PackageDescription: IC D-TYPE POS TRG SNGL SC70-6; PackageReference: DCK; Part Number: SN74LVC1G175DCKR
footprint sc-70-6
pins: 1 CLK (in), 2 GND (power), 3 D (in), 4 Q, 5 VCC (power), 6 ~{CLR} (in)

## SN74LVC1G374
designator U?
IC, Single D-Type Flip-Flop, tri-state output; Manufacturer: Texas Instruments; Part Number: SN74LVC1G374DCKR; ComponentLink1Description: Supplier Link; ComponentLink1URL: http://www.digikey.com/product-detail/en/SN74LVC1G374DBVR/296-18776-6-ND/1946775; HelpURL: C:\Dropbox\Component Datasheets\(U) Integrated Circuits\Comparators\Texas_Instruments_sn74lvc1g374.pdf; PackageDescription: SC70-6; PackageReference: DCK
footprint sc-70-6
pins: 1 CLK (in), 2 GND (power), 3 D (in), 4 Q, 5 VCC (power), 6 ~{OE} (in)

## STM-LIS2DH-LGA-14
designator U?, comment LIS2DS12TR
ACCEL 2-16G I2C/SPI 12LGA; Manufacturer: ST Microelectronics; PackageDescription: 12-VFLGA; ComponentLink1Description: Supplier Link; ComponentLink1URL: http://www.digikey.com/product-detail/en/stmicroelectronics/LIS2DS12TR/497-16261-2-ND/5799906; PackageReference: 12-VFLGA; Part Number: LIS2DS12TR; HelpURL: http://www.st.com/content/ccc/resource/technical/document/datasheet/ce/32/55/ac/e1/87/46/84/DM00177048.pdf/files/DM00177048.pdf/jcr:content/translations/en.DM00177048.pdf
footprint LGA-12_N (LGA, 12-Leads, Body 2.00x2.00mm, Pitch 0.35mm, IPC Medium Density)
pins: 1 SCL/SPC (io) "I2C serial clock (SCL),SPI serial port clock (SPC)", 2 CS (in) "SPI enable I2C/SPI mode selection (1: SPI idle mode / I2C communication enabled; 0: SPI communication mode / I2C disabled)", 3 SA0/SDO (io) "SPI serial data output (SDO),I2C less significant bit of the device address (SA0)", 4 SDA/SDI/SDO (io) "I2C serial data (SDA),SPI serial data input (SDI),3-wire interface serial data output (SDO)", 5 NC (out) "Intterupt pin 2", 6 GND (out) "Intterupt pin 1", 7 RES (power) "Power supply for I/O pins", 8 GND (power) "Power supply", 9 VDD (power) "0 V supply", 10 VDD_IO (power) "Connect to GND", 11 INT2 (power) "Connect to GND", 12 INT1 (power) "Connect to GND"

## STWD100NYWY3F
designator U?
IC, Watchdog, 1.6S, Open Drain; Manufacturer: ST Microelectronics; PackageDescription: IC WATCHDOG TIME CIRCUIT SOT23-5; ComponentLink1Description: Supplier Link; ComponentLink1URL: http://www.digikey.com/product-detail/en/stmicroelectronics/STWD100NYWY3F/497-10058-1-ND/2175107; PackageReference: SOT23-5; Part Number: STWD100NYWY3F; HelpURL: http://www.st.com/content/ccc/resource/technical/document/datasheet/06/6a/b3/83/9a/c7/4f/22/CD00176077.pdf/files/CD00176077.pdf/jcr:content/translations/en.CD00176077.pdf
footprint SOT-23-5 (SOT23-5, 5pin, 3mm x 3mm, 0.95 pitch)
pins: 1 ~{WDO} (oc), 2 GND (power) "Ground", 3 ~{EN} (in), 4 WDI (in), 5 VCC (power) "Supply Voltage Input"

## TC7WH123FUTE12LF
designator U?
IC, Multivibrator Mono, 8-TSSOP; Manufacturer: Toshiba Semi; PackageDescription: 8-TSSOP; PackageReference: SM8; ComponentLink1URL: http://www.digikey.com/product-detail/en/TC7WH123FUTE12LF/TC7WH123FUTE12LFCT-ND/870760; ComponentLink1Description: Supplier Link; PartNumber: TC7WH123FUTE12LF
footprint TSSOP-8_0.65P2.8X2.9 (TSOP, 8-Leads, Body 2.8x2.9mm, Pitch 0.65mm)
pins: 1 ~{A} (in), 2 B (in), 3 ~{CLR} (in), 4 GND (power), 5 Q (out), 6 CX, 7 RX/CX (oc), 8 VCC

## TCA9548APWR
designator U?
IC, I2C Switch, 8:1, 70 OHM, 24TSSOP; Manufacturer: Texas Instrument; PackageReference: 24-TSSOP; PackageDescription: IC, I2C Switch, 8:1, 70 OHM, 24TSSOP; ComponentLink1Description: Supplier Link; ComponentLink1URL: http://www.mouser.com/Search/ProductDetail.aspx?R=TCA9548APWRvirtualkey59500000virtualkey595-TCA9548APWR; HelpURL: http://www.ti.com/lit/ds/symlink/tca9548a.pdf; Part Number: TCA9548APWR
footprint TSSOP-24_0.65P4.4X7.8_IPC7351A (SOP, 24-Leads, Body 7.8x4.4mm, Pitch 0.65mm, IPC High Density)
pins: 1 A0, 2 A1, 3 ~{RESET}, 4 SD0, 5 SC0, 6 SD1, 7 SC1, 8 SD2, 9 SC2, 10 SD3, 11 SC3, 12 GND, 13 SD4, 14 SC4, 15 SD5, 16 SC5, 17 SD6, 18 SC6, 19 SD7, 20 SC7, 21 A2, 22 SCL, 23 SDA, 24 VCC

## TL1963ADCQR
designator U?
IC, Vreg, LDO, 1.5A, 1.21 - 20VAdj, -20V to 20 Vin; Manufacturer: Texas Instruments; PackageReference: SOT-223-6; PackageDescription: IC REG LDO ADJ 1.5A SOT223-6; Part Number: TL1963ADCQR; HelpURL: http://www.ti.com/lit/ds/symlink/tl1963a.pdf; ComponentLink2Description: Datahseet; ComponentLink1URL: http://www.digikey.com/product-detail/en/texas-instruments/TL1963ADCQR/296-25119-1-ND/2138595; ComponentLink1Description: Supplier Link
footprint SOT-223_6_LD (SOT223, 6-Leads, Body 6.55x3.55mm, Pitch 1.27mm, IPC Low Density)
pins: 1 ~{SHDN} (in) "Shutdown. The S\H\D\N\ pin is used to put the TL1963A-xx regulators into a low-power shutdown state. The output is off when the S\H\D\N\ pin is pulled low. The S\H\D\N\ pin can be driven either by 5-V logic or open-collector (See Datasheet)", 2 IN (power) "Input. Power is supplied to the device through the IN pin. A bypass capacitor is required on this pin if the device is more than six inches away from the main input filter capacitor. In general, the output impedance of a (See Datasheet)", 3 GND (power) "Ground.", 4 OUT (power) "Output. The output supplies power to the load. A minimum output capacitor (ceramic) of 10 µF is required to prevent oscillations. Larger output capacitors are required for applications with large transient loads to limit (See Datasheet)", 5 ADJ (in) "Adjust. For the adjustable TL1963A, this is the input to the error amplifier. This pin is clamped internally to +/-7 V. It has a bias current of 3 µA that flows into the pin. The ADJ pin voltage is 1.21 V referenced to (See Datasheet)", 6 GND (power) "Ground."

## TLC5971PWPR
designator U?
IC, LED Driver, 12-CH RGB, Serial, 16-SOIC; Manufacturer: Texas Instruments; PackageReference: 16-SOIC; PackageDescription: IC LED DRIVER LIN 60MA 20HTSSOP; ComponentLink1Description: Supplier Link; ComponentLink1URL: http://www.digikey.com/product-detail/en/texas-instruments/TLC5971PWPR/296-27796-1-ND/2404704; HelpURL: http://www.ti.com/lit/ds/symlink/tlc5971.pdf; Part Number: TLC5971PWPR
footprint TSSOP-20_0.65P4.5x6.5_EPAD (SOP, 20-Leads, Body 6.6x4.5mm, Pitch 0.65mm, Thermal Pad 3.43x2.75mm, IPC Low Density)
pins: 1 IREF (in) "Maximum current programming terminal. A resistor connected between IREF and GND sets the maximum current for every constant- current output. When this terminal is directly connected to GND, all outputs are forced off. The (See Datasheet)", 2 GND (power) "Power ground terminal", 3 OUTR0 (out) "RED constant-current outputs. Multiple outputs can be configured in parallel to increase the constant-current capability. Different voltages can be applied to each output.", 4 OUTG0 (out) "GREEN constant-current outputs. Multiple outputs can be configured in parallel to increase the constant-current capability. Different voltages can be applied to each output.", 5 OUTB0 (out) "BLUE constant-current outputs. Multiple outputs can be configured in parallel to increase the constant-current capability. Different voltages can be applied to each output.", 6 OUTR1 (out) "RED constant-current outputs. Multiple outputs can be configured in parallel to increase the constant-current capability. Different voltages can be applied to each output.", 7 OUTG1 (out) "GREEN constant-current outputs. Multiple outputs can be configured in parallel to increase the constant-current capability. Different voltages can be applied to each output.", 8 OUTB1 (out) "BLUE constant-current outputs. Multiple outputs can be configured in parallel to increase the constant-current capability. Different voltages can be applied to each output.", 9 SDTI (in) "Serial data input for the 224-bit shift register", 10 SCKI (in) "Serial data shift clock input. Data present on SDTI are shifted to the LSB of the 224-bit shift register with the SCKI rising edge Data in the shift register are shifted toward the MSB at each SCKI rising edge. The MSB data (See Datasheet)", 11 SCKO (out) "Serial data shift clock output. The input shift clock signal from SCKI is adjusted to the timing of the serial data output for SDTO and the signal is then output at SCKO.", 12 SDTO (out) "Serial data output of the 224-bit shift register. SDTO is connected to the MSB of the 224-bit shift register. Data are clocked out at the SCKI rising edge.", 13 OUTR2 (out) "RED constant-current outputs. Multiple outputs can be configured in parallel to increase the constant-current capability. Different voltages can be applied to each output.", 14 OUTG2 (out) "GREEN constant-current outputs. Multiple outputs can be configured in parallel to increase the constant-current capability. Different voltages can be applied to each output.", 15 OUTB2 (out) "BLUE constant-current outputs. Multiple outputs can be configured in parallel to increase the constant-current capability. Different voltages can be applied to each output.", 16 OUTR3 (out) "RED constant-current outputs. Multiple outputs can be configured in parallel to increase the constant-current capability. Different voltages can be applied to each output.", 17 OUTG3 (out) "GREEN constant-current outputs. Multiple outputs can be configured in parallel to increase the constant-current capability. Different voltages can be applied to each output.", 18 OUTB3 (out) "BLUE constant-current outputs. Multiple outputs can be configured in parallel to increase the constant-current capability. Different voltages can be applied to each output.", 19 VCC (power) "Power-supply terminal", 20 VREG (power) "Internal linear voltage regulator output. A decoupling capacitor of 1 uF must be connected. This output can be used for external devices as a 3.3-V power supply. This terminal can be connected with the VREG terminal of other (See Datasheet)", 21 GND (power) "Power ground terminal"

## TPS3700DDCR
designator U?
IC, comparator, window, over/under voltage; Manufacturer: Texas Instruments; ComponentLink1Description: Supplier Link; ComponentLink1URL: https://www.digikey.com/products/en?keywords=AL5809-15P1-7DICT-ND; HelpURL: http://www.ti.com/lit/ds/symlink/tps3700.pdf; PackageDescription: IC COMP WINDOW W/REF 6SOT; PackageReference: DDC; ComponentLink2URL: http://www.ti.com/product/tps3700; ComponentLink2Description: Manufacturer Link; Part Number: TPS3700DDCR
footprint SOT_23-6_MO-193-AA (SOT23, 6pin, 3mm x 3mm, 0.95 pitch)
pins: 1 OUTA (oc), 2 GND (power), 3 INA+ (in), 4 INB- (in), 5 VDD (power), 6 OUTB (oc)